# EAGLE library part 74ALVC164245 (library TI)
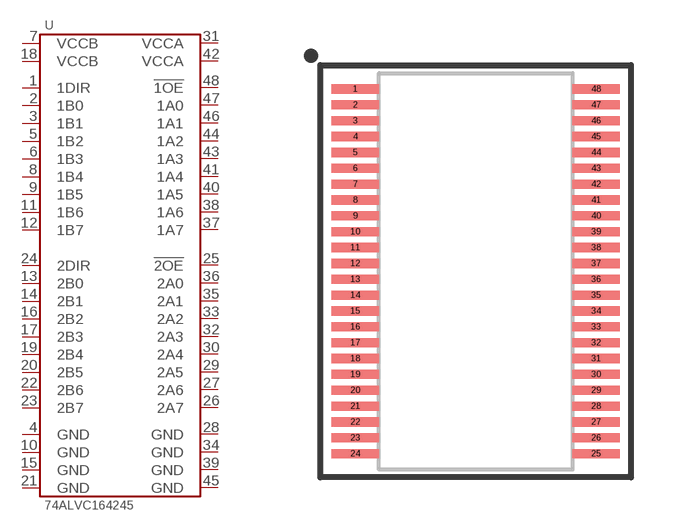
[diagram p31: symbol with the pads of TFSOP-48-6.1MM; footprint TFSOP-48-6.1MM]

Designator prefix U

## 74ALVC164245DGG:11  [TFSOP-48-6.1MM]
1  1DIR
2  1B0
3  1B1
4  GND
5  1B2
6  1B3
7  VCCB
8  1B4
9  1B5
10  GND
11  1B6
12  1B7
13  2B0
14  2B1
15  GND
16  2B2
17  2B3
18  VCCB
19  2B4
20  2B5
21  GND
22  2B6
23  2B7
24  2DIR
25  !2OE
26  2A7
27  2A6
28  GND
29  2A5
30  2A4
31  VCCA
32  2A3
33  2A2
34  GND
35  2A1
36  2A0
37  1A7
38  1A6
39  GND
40  1A5
41  1A4
42  VCCA
43  1A3
44  1A2
45  GND
46  1A1
47  1A0
48  !1OE

## Footprint TFSOP-48-6.1MM (pad centres in mm)
smd 1.5 x 0.29: 1 -3.8,5.75; 2 -3.8,5.25; 3 -3.8,4.75; 4 -3.8,4.25; 5 -3.8,3.75; 6 -3.8,3.25; 7 -3.8,2.75; 8 -3.8,2.25; 9 -3.8,1.75; 10 -3.8,1.25; 11 -3.8,0.75; 12 -3.8,0.25; 13 -3.8,-0.25; 14 -3.8,-0.75; 15 -3.8,-1.25; 16 -3.8,-1.75; 17 -3.8,-2.25; 18 -3.8,-2.75; 19 -3.8,-3.25; 20 -3.8,-3.75; 21 -3.8,-4.25; 22 -3.8,-4.75; 23 -3.8,-5.25; 24 -3.8,-5.75; 25 3.8,-5.75; 26 3.8,-5.25; 27 3.8,-4.75; 28 3.8,-4.25; 29 3.8,-3.75; 30 3.8,-3.25; 31 3.8,-2.75; 32 3.8,-2.25; 33 3.8,-1.75; 34 3.8,-1.25; 35 3.8,-0.75; 36 3.8,-0.25; 37 3.8,0.25; 38 3.8,0.75; 39 3.8,1.25; 40 3.8,1.75; 41 3.8,2.25; 42 3.8,2.75; 43 3.8,3.25; 44 3.8,3.75; 45 3.8,4.25; 46 3.8,4.75; 47 3.8,5.25; 48 3.8,5.75